# Altium footprint library Radolovic_PCB_Library.PcbLib: 19 footprints (part 1 of 2)
Each footprint in its own frame and in the unit in brackets; x right, y up, seen from the top. Pads: shape width x height; smd on the part's side, far side on the other; paste and mask are expansions set on the pad; w line width, h text height; cw(c..) or ccw(c..) is an arc to the next point about the centre after c.
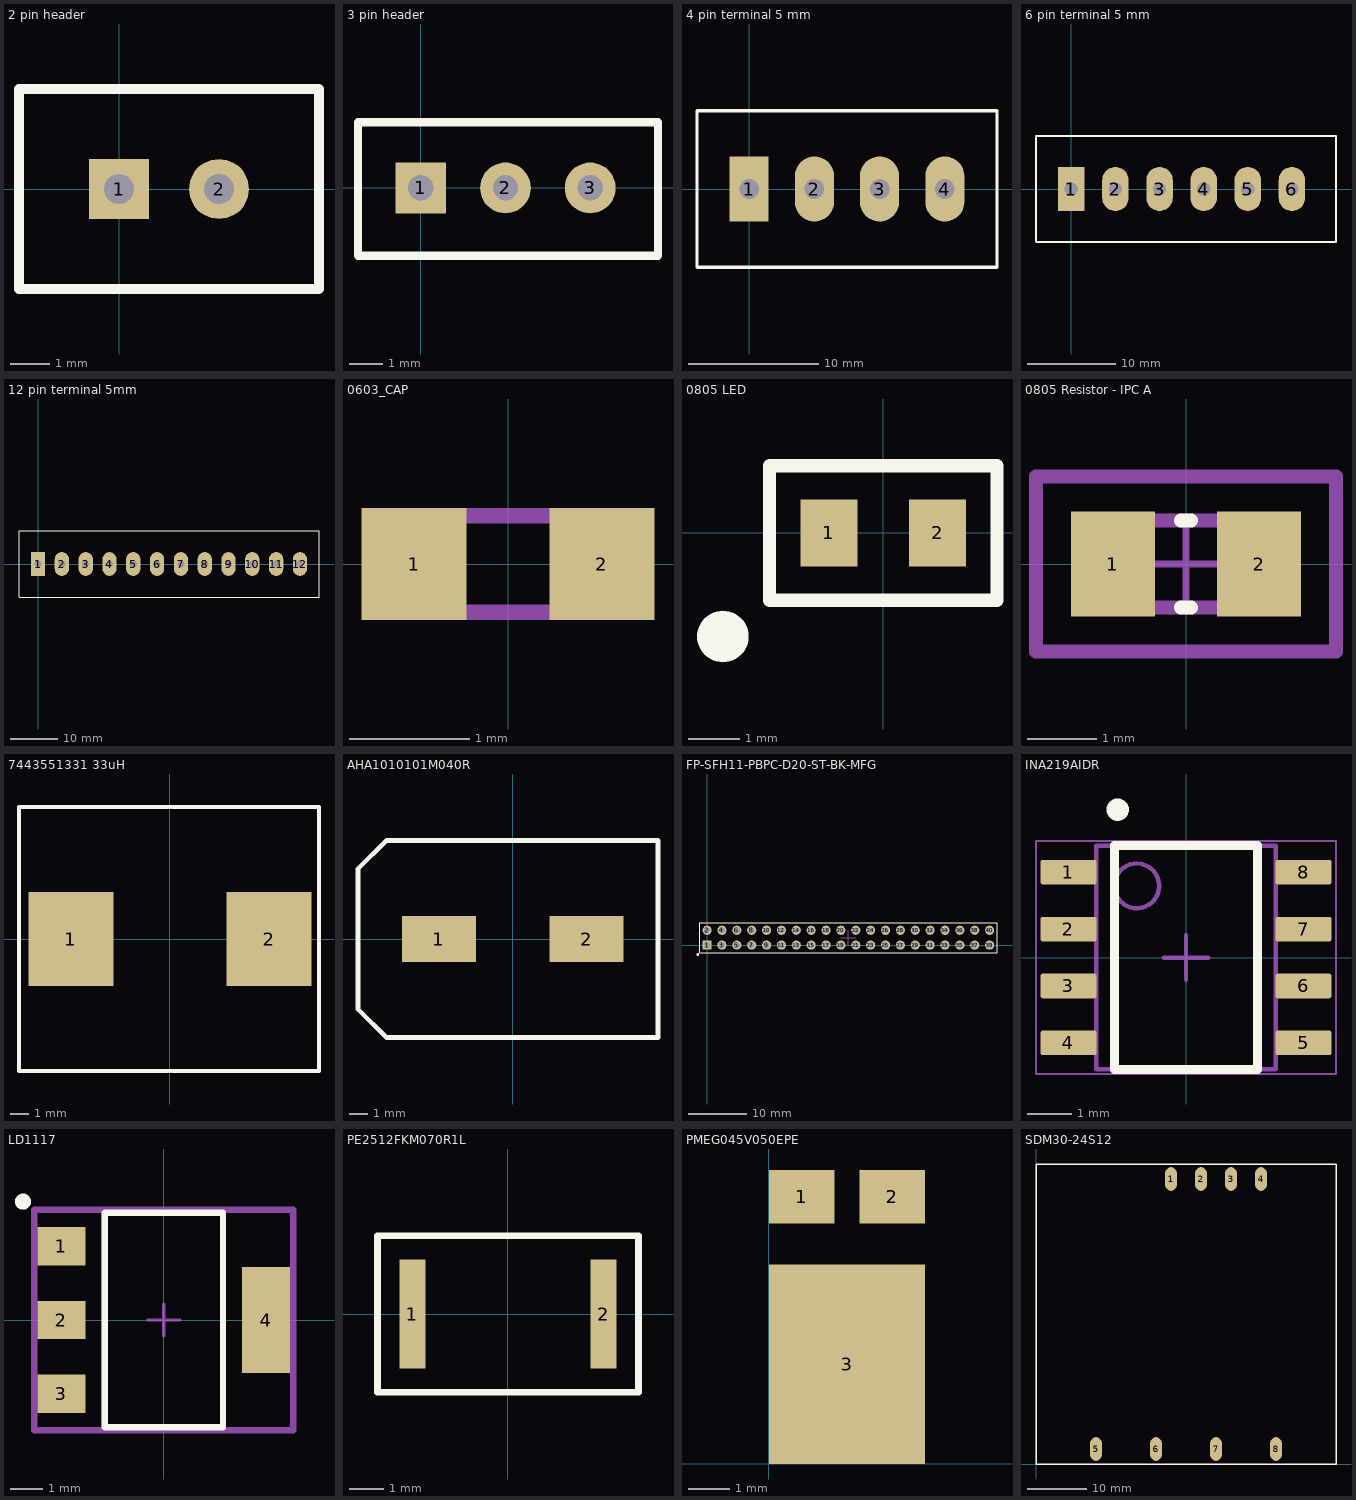
[diagram p0: the footprints below, top view; thin cyan lines are the x and y axes]

## 2 pin header [mil]
pads (2):
  rect 60x60 hole 30: 1(0,0)
  round 60 hole 30: 2(100,0)
Top Overlay:
  lines w10: -100,-100 200,-100 200,100 -100,100 -100,-100

## 3 pin header [mil]
pads (3):
  rect 60x60 hole 30: 1(0,0)
  round 60 hole 30: 2(100,0) 3(200,0)
Top Overlay:
  lines w10: -74.02,-80 280,-80 280,77.48 -74.02,77.48 -74.02,-80

## 4 pin terminal 5 mm [mm]
pads (4):
  rect 3x5 hole 1.5: 1(0,0)
  oval 3x5 hole 1.5: 2(5,0) 3(10,0) 4(15,0)
Top Overlay:
  lines w0.254: -4,-6 19,-6 19,6 -4,6 -4,-6

## 6 pin terminal 5 mm [mm] "6 pin terminal block 5 mm"
pads (6):
  rect 3x5 hole 1.5: 1(0,0)
  oval 3x5 hole 1.5: 2(5,0) 3(10,0) 4(15,0) 5(20,0) 6(25,0)
Top Overlay:
  lines w0.254: -4,-6 30,-6 30,6 -4,6 -4,-6

## 12 pin terminal 5mm [mm] "12 pin terminal block 5 mm"
pads (12):
  rect 3x5 hole 1.5: 1(0,0)
  oval 3x5 hole 1.5: 2(5,0) 3(10,0) 4(15,0) 5(20,0) 6(25,0) 7(30,0) 8(35,0) 9(40,0) 10(45,0) 11(50,0) 12(55,0)
Top Overlay:
  lines w0.254: -4,-7 59,-7 59,7 -4,7 -4,-7

## 0603_CAP [mm]
pads (2):
  rect 0.87x0.93 smd: 1(-0.78,0) 2(0.78,0)
Mechanical 13:
  lines w0.127: -0.8,-0.4 -0.8,0.4 0.8,0.4 0.8,-0.4 -0.8,-0.4
3D body "step_temp.STEP": height 0.45, standoff -0.45, extent -0.8,-0.4 0.8,0.4

## 0805 LED [mm] "Wurth Electronics  / 150080VS75000"
pads (3):
  rect 1.1x1.3 smd: 1(-1.05,0) 2(1.05,0)
  round 1 on Top Overlay: ""(-3.1,-2)
Top Overlay:
  lines w0.254: -2.2,-1.3 2.2,-1.3 2.2,1.3 -2.2,1.3 -2.2,-1.3

## 0805 Resistor - IPC A [mil]
pads (2):
  rect 47.5x59.38 smd paste+0: 1(-41.37,0) 2(41.37,0)
Top Overlay:
  lines w7.87: -2.86,-24.61 2.86,-24.61 ; -2.86,24.61 2.86,24.61
Top 3D Body:
  lines w7.87: -39.37,-24.61 -39.37,24.61 39.37,24.61 39.37,-24.61 -39.37,-24.61
Top Courtyard:
  lines w7.87: -84.81,-49.37 -84.81,49.37 84.81,49.37 84.81,-49.37 -84.81,-49.37
Top Assembly:
  lines w7.87: -84.81,-49.37 -84.81,49.37 84.81,49.37 84.81,-49.37 -84.81,-49.37
  text ".Designator" at 0,7.39 h39.37
Top Component Center:
  lines w3.94: -19.68,0 19.68,0 ; 0,-19.68 0,19.68
3D body "Res_Vishay_CRCW0805100KFKEA_eec.STEP": height 10, standoff 0, extent -84.81,-49.37 84.81,49.37

## 7443551331 33uH [mm] "Wurth Electronics 7443551331 33uH"
pads (2):
  rect 4.5x5 smd: 1(-5.25,0) 2(5.25,0)
Top Overlay:
  lines w0.2: -8,-7 -8,0.625 -8,7 7.9,7 7.9,-7 3.475,-7 -3.375,-7 -8,-7

## AHA1010101M040R [mm]
pads (2):
  rect 4x2.5 smd: 1(-4,0) 2(4,0)
Top Overlay:
  lines w0.254: -8.382,-3.81 -8.382,3.302 -8.382,3.81 -6.858,5.334 -6.35,5.334 7.874,5.334 7.874,-5.334 -6.858,-5.334 -8.382,-3.81

## FP-SFH11-PBPC-D20-ST-BK-MFG [mm]
pads (40):
  rect 1.57x1.57 hole 1.02 paste-2539.97: 1(0,0)
  round 1.57 hole 1.02 paste-2539.97: 2(0,2.54) 3(2.54,0) 4(2.54,2.54) 5(5.08,0) 6(5.08,2.54) 7(7.62,0) 8(7.62,2.54) 9(10.16,0) 10(10.16,2.54) 11(12.7,0) 12(12.7,2.54) 13(15.24,0) 14(15.24,2.54) 15(17.78,0) 16(17.78,2.54) 17(20.32,0) 18(20.32,2.54) 19(22.86,0) 20(22.86,2.54) 21(25.4,0) 22(25.4,2.54) 23(27.94,0) 24(27.94,2.54) 25(30.48,0) 26(30.48,2.54) 27(33.02,0) 28(33.02,2.54) 29(35.56,0) 30(35.56,2.54) 31(38.1,0) 32(38.1,2.54) 33(40.64,0) 34(40.64,2.54) 35(43.18,0) 36(43.18,2.54) 37(45.72,0) 38(45.72,2.54) 39(48.26,0) 40(48.26,2.54)
Top Overlay:
  circle w0.25: c-1.6,-1.6 r0.125
  lines w0.2: -1.27,-1.262 49.53,-1.262 49.53,3.818 -1.27,3.818 -1.27,-1.262
Mechanical 1:
  lines w0.127: 22.86,1.27 25.4,1.27 ; 24.13,0 24.13,2.54

## INA219AIDR [mm] "SOIC, 8-Leads, Body 5x4mm, Pitch 1.27mm, IPC High Density"
height 1.75
pads (8):
  rrect18% 1.25x0.55 smd: 1(-2.625,1.905) 2(-2.625,0.635) 3(-2.625,-0.635) 4(-2.625,-1.905) 5(2.625,-1.905) 6(2.625,-0.635) 7(2.625,0.635) 8(2.625,1.905)
Top Overlay:
  circle w0.25: c-1.524,3.302 r0.125
  lines w0.2: -1.6,-2.5 -1.6,2.5 1.6,2.5 1.6,-2.5 -1.6,-2.5
Mechanical 1:
  text ".Designator" at -1.397,-0.254 h0.6
Mechanical 13:
  circle w0.1: c-1.1,1.6 r0.5
  lines w0.1: -2,-2.5 -2,2.5 2,2.5 2,-2.5 -2,-2.5
Mechanical 15:
  lines w0.05: -3.35,-2.6 -3.35,2.6 3.35,2.6 3.35,-2.6 -3.35,-2.6
  lines w0.1: -0.5,0 0.5,0 ; 0,-0.5 0,0.5
3D body "SOIC-8akaD0008AakaM08A.stp": height 1.63, standoff 0, extent -3,-2.45 3,2.45

## LD1117 [mm]
pads (4):
  rect 1.5x1.2 smd paste+0: 1(-3.2,2.3) 2(-3.2,0) 3(-3.2,-2.3)
  rect 1.5x3.3 smd paste+0: 4(3.2,0)
Top Overlay:
  circle w0.25: c-4.4,3.7 r0.125
  lines w0.2: -1.85,-3.35 -1.85,3.35 1.85,3.35 1.85,-3.35 -1.85,-3.35
Top 3D Body:
  lines w0.2: -1.85,-3.35 -1.85,3.35 1.85,3.35 1.85,-3.35 -1.85,-3.35
Top Courtyard:
  lines w0.2: -4.05,-3.45 -4.05,3.45 4.05,3.45 4.05,-3.45 -4.05,-3.45
Top Assembly:
  lines w0.2: -4.05,-3.45 -4.05,3.45 4.05,3.45 4.05,-3.45 -4.05,-3.45
  text ".Designator" at 0,0.188 h1
Top Component Center:
  lines w0.1: -0.5,0 0.5,0 ; 0,-0.5 0,0.5
3D body "IC_STMicroelectronics_LDL1117S50R_eec.STEP": height 0.25, standoff 0, extent -4.05,-3.45 4.05,3.45

## PE2512FKM070R1L [mm]
pads (2):
  rect 0.76x3.18 smd: 1(-2.795,0) 2(2.795,0)
Top Overlay:
  lines w0.2: -3.81,-2.286 3.81,-2.286 3.81,2.286 -3.81,2.286 -3.81,0 -3.81,-2.286

## PMEG045V050EPE [mm]
pads (3):
  rect 1.6x1.3 smd: 1(0.8,6.5) 2(3,6.5)
  rect 3.8x4.85 smd: 3(1.9,2.425)

## SDM30-24S12 [mm] "SDM30-24S12"
pads (8):
  oval 2x4 hole 0.4: 1(22.86,48.26) 2(27.94,48.26) 3(33.02,48.26) 4(38.1,48.26) 5(10.16,2.54) 6(20.32,2.54) 7(30.48,2.54) 8(40.64,2.54)
Top Overlay:
  lines w0.254: 0,0 50.8,0 50.8,50.8 0,50.8 0,0